# Altium schematic symbol library ESP32_S3_Schlib.SchLib: 16 symbols
Pins are listed as number, name and electrical type; pins without a type are passive.

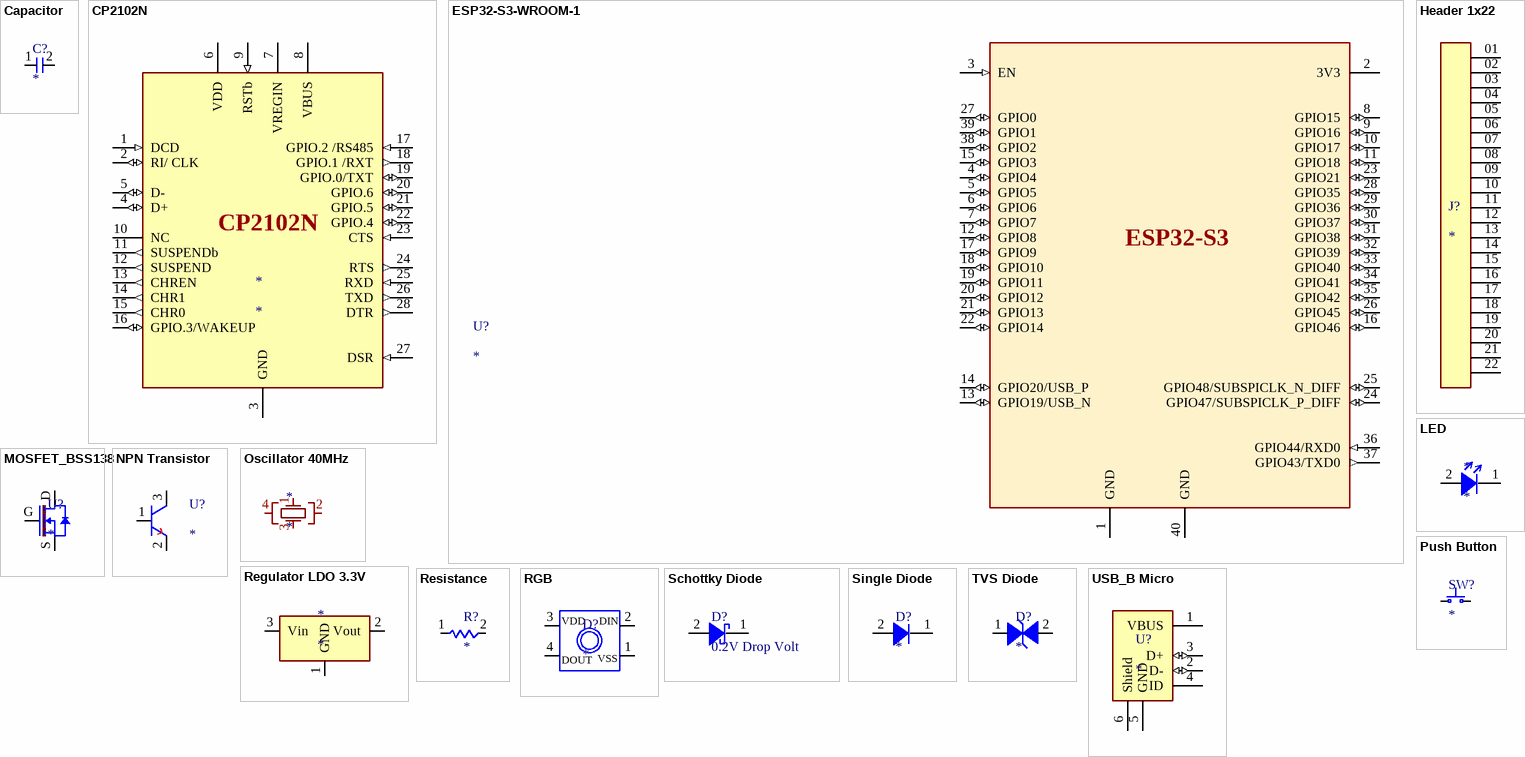
[diagram p0: symbols Capacitor to USB_B Micro]

## Capacitor
designator C?
footprint Capacitor
pins: 1 Pin 1 "Pin 1 of ceramic capaciitor", 2 Pin 2 "Pin 2 of ceramic capaciitor"

## CP2102N
designator *
footprint CP2102N (IC USB TO UART BRIDGE QFN20)
pins: 1 DCD (in), 2 RI/ CLK (io), 3 GND (power), 4 D+ (io), 5 D- (io), 6 VDD (power), 7 VREGIN (power), 8 VBUS (power), 9 RSTb (in), 10 NC (oe), 11 SUSPENDb (out), 12 SUSPEND (out), 13 CHREN (out), 14 CHR1 (out), 15 CHR0 (out), 16 GPIO.3/WAKEUP (io), 17 GPIO.2 /RS485 (in), 18 GPIO.1 /RXT (out), 19 GPIO.0/TXT (io), 20  GPIO.6 (io), 21  GPIO.5 (io), 22  GPIO.4 (io), 23 CTS (in), 24 RTS (out), 25 RXD (in), 26 TXD (out), 27 DSR (in), 28 DTR (out)

## ESP32-S3-WROOM-1
designator U?
2.4 GHz Wi-Fi (802.11b/g/n) and Bluetooth® 5 module / Built around ESP32-S3 series of SoCs, Xtensa® dual-core 32-bit LX7 microprocessor / Flash up to 16 MB, PSRAM up to 16 MB / Up to 36 GPIOs, rich set of peripherals / On-board PCB antenna or external antenna connector; ComponentLink1Description: Links; ComponentLink1URL: https://docs.espressif.com/projects/esp-dev-kits/en/latest/esp32s3/esp32-s3-devkitc-1/user_guide_v1.0.html#hardware-reference
footprint ESP32-S3-WROOM-1-N4 (RF TXRX MOD BT WIFI PCB TH SMD)
pins: 1 GND (power), 2 3V3 (power), 3 EN (in), 4 GPIO4 (io), 5 GPIO5 (io), 6 GPIO6 (io), 7 GPIO7 (io), 8 GPIO15 (io), 9 GPIO16 (io), 10 GPIO17 (io), 11 GPIO18 (io), 12 GPIO8 (io), 13 GPIO19/USB_N (io), 14 GPIO20/USB_P (io), 15 GPIO3 (io), 16 GPIO46 (io), 17 GPIO9 (io), 18 GPIO10 (io), 19 GPIO11 (io), 20 GPIO12 (io), 21 GPIO13 (io), 22 GPIO14 (io), 23 GPIO21 (io), 24 GPIO47/SUBSPICLK_P_DIFF (io), 25 GPIO48/SUBSPICLK_N_DIFF (io), 26 GPIO45 (io), 27 GPIO0 (io), 28 GPIO35 (io), 29 GPIO36 (io), 30 GPIO37 (io), 31 GPIO38 (io), 32 GPIO39 (io), 33 GPIO40 (io), 34 GPIO41 (io), 35 GPIO42 (io), 36 GPIO44/RXD0 (in), 37 GPIO43/TXD0 (out), 38 GPIO2 (io), 39 GPIO1 (io), 40 GND (power)
text: ESP32-S3

## Header 1x22
designator J?
footprint Header 1xx22
pins: 01, 02, 03 01, 04 02, 05 01, 06 02, 07 01, 08 02, 09 01, 10 02, 11 01, 12 02, 13 01, 14 02, 15 01, 16 02, 17 01, 18 02, 19 01, 20 02, 21 01, 22 02

## LED
designator *
https://www.digikey.com/en/products/detail/yongyu-optoelectronics/YY0402BL-NN3S0-T1AR4/25558564?s=N4IgjCBcoLQCxVAYygMwIYBsDOBTANCAPZQDaIAnAMxhwQC6AvoTAGyIgqQAuATgK4FiZEFRBNmIAEwiqAOioA1AAQB5AHLKAMgFEAIuMZA
footprint Led
pins: 1, 2

## MOSFET_BSS138
designator U?
MOSFET N-CH 50V 220MA SOT23; Link: https://www.digikey.com/en/products/detail/micro-commercial-co/BSS138-TP/10054628
footprint MOSFET_BSS138
pins: D, G, S

## NPN Transistor
designator U?
TRANS PREBIAS NPN 50V TO236AB; Links: https://www.digikey.com/en/products/detail/nexperia-usa-inc/PDTD114ETR/5035778
footprint NPN Transistor (TRANS PREBIAS NPN 50V TO236AB)
pins: 1, 2, 3

## Oscillator 40MHz
designator *
footprint Oscillator
pins: 1 6, 2, 3, 4 6

## Push Button
designator SW?
Links: https://www.digikey.com/en/products/detail/w%C3%BCrth-elektronik/434133025816/9950810
footprint Push Button (SWITCH TACTILE SPST-NO 0.05A 12V)
pins: 1, 2

## Regulator LDO 3.3V
designator *
footprint Regulator 3.3V
pins: 1 GND, 2 Vout, 3 Vin

## Resistance
designator R?
footprint Resistor
pins: 1 Pin 1, 2 pin 2

## RGB
designator D?
LED RGB CLEAR 3528 SMD
footprint RGB
pins: 1, 2, 3, 4
text: VDD; DIN; VSS; DOUT

## Schottky Diode
designator D?, comment 0.2V Drop Volt
DIODE SCHOTTKY 0.5V 1A 2DSN; ComponentLink1Description: Link; ComponentLink1URL: https://www.digikey.com/en/products/detail/onsemi/NSR20F40NXT5G/5801655
footprint Schoktty Diode
pins: 1, 2

## Single Diode
designator D?
footprint Single Diode
pins: 1, 2

## TVS Diode
designator D?
footprint TVS Diode
pins: 1, 2

## USB_B Micro
designator U?
footprint USB8_Micro
pins: 1 VBUS (power), 2 D- (io), 3 D+ (io), 4 ID, 5 GND (power), 6 Shield (power)